# Altium schematic symbol library LTC2067HDD#PBF.SchLib: 1 symbol
Pins are listed as number, name and electrical type; pins without a type are passive.

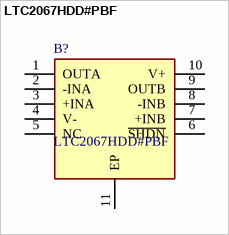
[diagram p0: symbol LTC2067HDD#PBF]

## LTC2067HDD#PBF
designator B?
IC OPAMP ZERO-DRIFT 2 CIRC 10DFN; Manufacturer_Name: Analog Devices; Geometry.Height: 0.8mm; Mouser Part Number: 584-LTC2067HDD#PBF; Mouser Price/Stock: https://www.mouser.com/Search/Refine.aspx?Keyword=584-LTC2067HDD%23PBF; Manufacturer_Part_Number: LTC2067HDD#PBF; Datasheet Link: https://componentsearchengine.com/Datasheets/1/LTC2067HDD#PBF.pdf
footprint SON50P300X300X80-11N-D
pins: 1 OUTA, 2 -INA, 3 +INA, 4 V-, 5 NC, 6 ~{SHDN}, 7 +INB, 8 -INB, 9 OUTB, 10 V+, 11 EP